# EAGLE library part TPS2514 (library TPS2514)
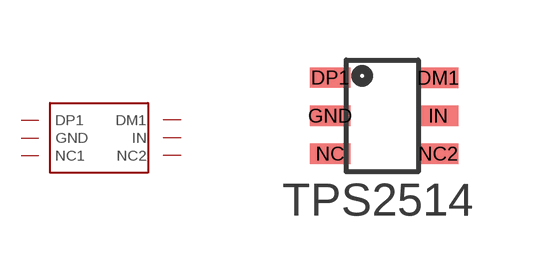
[diagram p0: symbol with the pads of TPS2514; footprint TPS2514]

Designator prefix -

## TPS2514  [TPS2514]
DM1  DM1
DP1  DP1
GND  GND
IN  IN
NC  NC1
NC2  NC2

## Footprint TPS2514 (pad centres in mm)
smd 1.016 x 0.508: DM1 1.4,0.95; DP1 -1.3,0.955; GND -1.3,0; IN 1.4,0; NC -1.3,-0.95; NC2 1.4,-0.95